# Altium integrated library 5032_2P.IntLib: 1 symbol
Pins are listed as number, name and electrical type; pins without a type are passive.

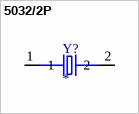
[diagram p0: symbol 5032/2P]

## 5032/2P
designator Y?
SMD Crystal 12Mhz-20pF-20ppm-40R;; MF: Xinhunjing; MP: 5032/2P; Package: None; Value: *; Price: None; Availability: Unavailable; SnapEDA_Link: https://www.snapeda.com/parts/5032/2P/Xinhunjing/view-part/105659/?ref=snap
footprint OSCCC500X320X135
pins: 1, 2